# Altium schematic symbol library 7-Segment.SchLib: 3 symbols
Pins are listed as number, name and electrical type; pins without a type are passive.

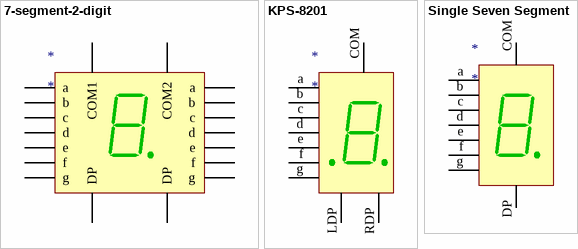
[diagram p0: symbols 7-segment-2-digit to Single Seven Segment]

## 7-segment-2-digit
designator *
2 Digit Seven Segment
footprint 0.52-inch-2-digit-ssd (0.52" 2 Digit Seven Segment Display)
pins: 1 e, 2 d, 3 c, 4 DP, 5 e, 6 d, 7 g, 8 c, 9 DP, 10 b, 11 a, 12 f, 13 COM2, 14 COM1, 15 b, 16 a, 17 g, 18 f

## KPS-8201
designator *
Single Digit Seven Segment; Common Anode: true
pins: a 7, b 6, c 4, COM 8, d 2, e 1, f 9, g 10, LDP 5, RDP 5

## Single Seven Segment
designator *
Common Anode: true
footprint KPS-3191A; pin to pad a>10 b>9 c>7 COM>3 d>5 e>4 f>2 g>1
pins: a 7, b 6, c 4, COM 8, d 2, DP 5, e 1, f 9, g 10